# Altium footprint library 封装库11.PcbLib: 16 footprints
Each footprint in its own frame and in the unit in brackets; x right, y up, seen from the top. Pads: shape width x height; smd on the part's side, far side on the other; paste and mask are expansions set on the pad; w line width, h text height; cw(c..) or ccw(c..) is an arc to the next point about the centre after c.
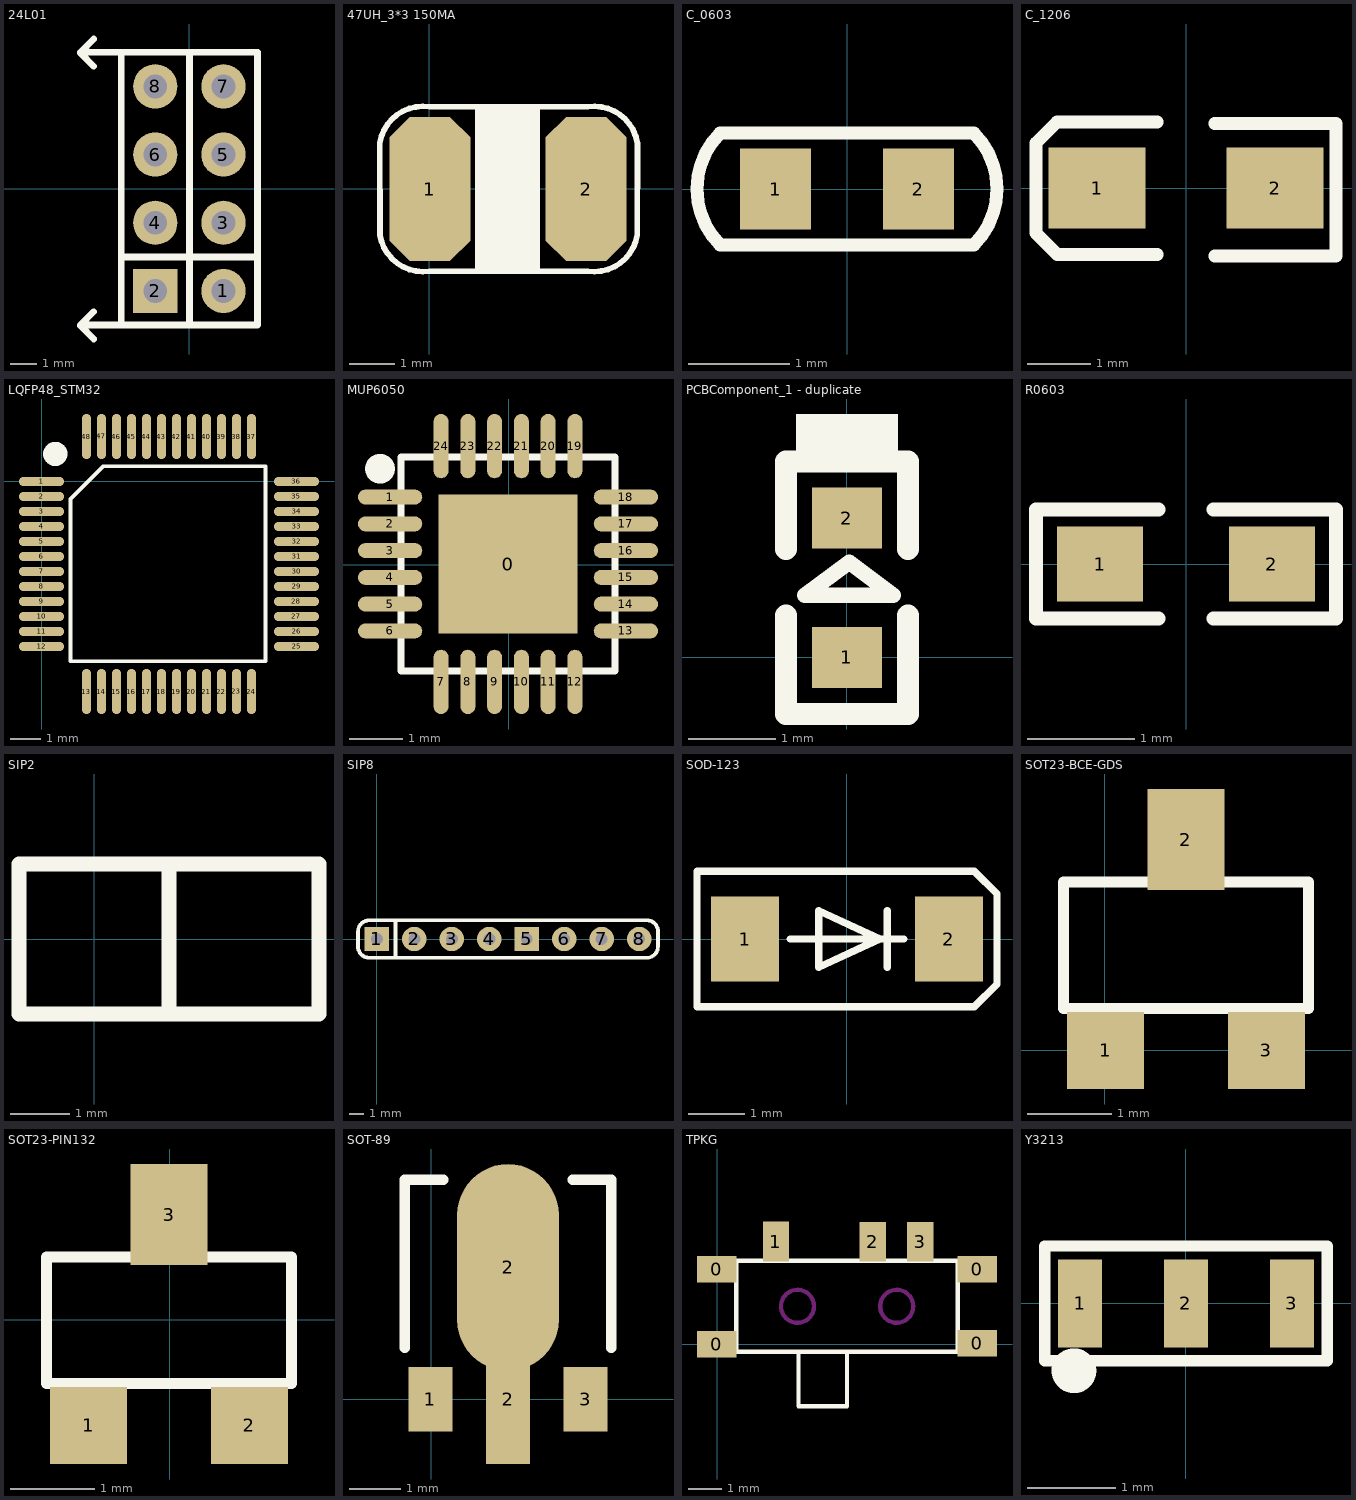
[diagram p0: the footprints below, top view; thin cyan lines are the x and y axes]

## 24L01 [mil]
pads (8):
  round 65 hole 35: 1(50.24,-149.5) 3(50.24,-49.5) 4(-49.76,-49.5) 5(50.24,50.5) 6(-49.76,50.5) 7(50.24,150.5) 8(-49.76,150.5)
  rect 65x65 hole 35: 2(-49.76,-149.5)
Top Overlay:
  lines w10: -159.5,-200.5 -140,-220 ; -140,-180 -159.5,-199.5 -99.76,-199.5 ; -140,180 -159.5,199.5 -159.5,200.5 ; -140,220 -159.5,200.5 ; -99.76,-99.5 0.23,-99.5 100.23,-99.5 ; -159.5,200.5 -99.76,200.5 ; -99.76,-199.5 -99.76,200.5 ; -99.76,-199.5 0.23,-199.5 ; -99.76,200.5 0.24,200.5 ; 0.23,-199.5 0.24,200.5 ; 0.24,-199.5 0.24,200.5 ; 0.24,-199.5 100.23,-199.5 100.24,200.5 0.24,200.5

## 47UH_3*3 150MA [mm]
pads (2):
  oct 1.8x3.2 smd: 1(0.009,-0.003) 2(3.488,-0.003)
Top Overlay:
  rectangle: 1.016,-1.831 2.464,1.826
  lines w0.127: -1.106,1.016 cw(c-0.148,0.868) 0,1.826 3.525,1.826 cw(c3.673,0.868) 4.631,1.016 4.629,-1.021 cw(c3.67,-0.873) 3.522,-1.831 0.003,-1.831 cw(c-0.145,-0.873) -1.103,-1.021 -1.106,1.016

## C_0603 [mm]
height 6
pads (2):
  rect 0.7x0.8 smd: 1(-0.703,0) 2(0.703,0)
Top Overlay:
  lines w0.127: -1.25,-0.55 cw(c-0.7,0) -1.25,0.55 1.25,0.55 cw(c0.7,0) 1.25,-0.55 -1.25,-0.55
3D body: height 0.8, standoff 0, extent -0.8,-0.4 0.8,0.4

## C_1206 [mil]
height 236.22
pads (2):
  rect 60x50 smd: 1(-55,0) 2(55,0)
Top Overlay:
  lines w5: 50.82,39.98 92.72,39.98 ; 60.82,-42.02 92.72,-42.02
  lines w8: -17.82,-41.03 -70.82,-41.03 -79.66,-41.03 -92.82,-27.87 -92.82,-19.03 -92.82,18.75 -92.82,27.93 -79.78,40.97 -70.6,40.97 -17.82,40.97 ; 17.72,-42.02 70.72,-42.02 ; 17.72,39.98 70.72,39.98 ; 44.72,39.98 92.72,39.98 92.72,-42.02 47.72,-42.02
3D body: height 62.99, standoff 0, extent -63,-31.5 62.98,31.5

## LQFP48_STM32 [mm]
height 6
pads (48):
  oval 1.5x0.3 smd: 1(0,0) 2(0,-0.5) 3(0,-1) 4(0,-1.5) 5(0,-2) 6(0,-2.5) 7(0,-3) 8(0,-3.5) 9(0,-4) 10(0,-4.5) 11(0,-5) 12(0,-5.5) 25(8.5,-5.5) 26(8.5,-5) 27(8.5,-4.5) 28(8.5,-4) 29(8.5,-3.5) 30(8.5,-3) 31(8.5,-2.5) 32(8.5,-2) 33(8.5,-1.5) 34(8.5,-1) 35(8.5,-0.5) 36(8.5,0)
  oval 0.3x1.5 smd: 13(1.5,-7) 14(2,-7) 15(2.5,-7) 16(3,-7) 17(3.5,-7) 18(4,-7) 19(4.5,-7) 20(5,-7) 21(5.5,-7) 22(6,-7) 23(6.5,-7) 24(7,-7) 37(7,1.5) 38(6.5,1.5) 39(6,1.5) 40(5.5,1.5) 41(5,1.5) 42(4.5,1.5) 43(4,1.5) 44(3.5,1.5) 45(3,1.5) 46(2.5,1.5) 47(2,1.5) 48(1.5,1.5)
Top Overlay:
  circle w0.5: c0.459,0.919 r0.155
  lines w0.127: 0.965,-5.994 0.965,-0.584 2.055,0.506 7.465,0.506 7.465,-5.994 0.965,-5.994

## MUP6050 [mm]
pads (25):
  rect 2.6x2.6 smd: 0(-0.013,0.013)
  oval 1.2x0.28 smd: 1(-2.213,1.263) 2(-2.213,0.763) 3(-2.213,0.263) 4(-2.213,-0.237) 5(-2.213,-0.737) 6(-2.213,-1.237) 13(2.187,-1.237) 14(2.187,-0.737) 15(2.187,-0.237) 16(2.187,0.263) 17(2.187,0.763) 18(2.187,1.263)
  oval 0.28x1.2 smd: 7(-1.263,-2.187) 8(-0.763,-2.187) 9(-0.263,-2.187) 10(0.237,-2.187) 11(0.737,-2.187) 12(1.237,-2.187) 19(1.237,2.213) 20(0.737,2.213) 21(0.237,2.213) 22(-0.263,2.213) 23(-0.763,2.213) 24(-1.263,2.213)
Top Overlay:
  circle w0.203: c-2.317,1.791 r0.092
  circle w0.203: c-2.402,1.791 r0.176
  lines w0.127: -2.013,-1.987 1.987,-1.987 1.987,2.013 -2.013,2.013 -2.013,-1.987

## PCBComponent_1 - duplicate [mm]
pads (2):
  rect 0.8x0.7 smd: 1(0,0) 2(0,1.6)
Top Overlay:
  rectangle: -0.583,2.25 0.586,2.794
  lines w0.178: -0.483,0.711 0.025,1.092 0.533,0.711 -0.483,0.711
  lines w0.254: -0.7,0.483 -0.7,-0.65 0.7,-0.65 0.7,0.483 ; -0.7,1.245 -0.7,2.25 0.7,2.25 0.7,1.245

## R0603 [mm]
height 6
pads (2):
  rect 0.8x0.7 smd: 1(-0.8,0) 2(0.8,0)
Top Overlay:
  lines w0.127: -0.254,-0.508 -1.397,-0.508 -1.397,0.508 -1.111,0.508 -0.54,0.508 -0.254,0.508 ; 0.254,-0.508 1.397,-0.508 1.397,0.508 0.254,0.508
3D body: height 0.56, standoff 0, extent -0.85,-0.406 0.85,0.394

## SIP2 [mm]
Top Overlay:
  lines w0.254: 1.27,-1.27 1.27,1.27 ; -1.27,-1.27 3.81,-1.27 3.81,1.27 -1.27,1.27 -1.27,-1.27

## SIP8 [mil]
height 216.54
pads (8):
  rect 65x65 hole 32: 1(-0.23,0.07) 5(399.77,0.07)
  round 65 hole 32: 2(99.77,0.07) 3(199.77,0.07) 4(299.77,0.07) 6(499.77,0.07) 7(599.77,0.07) 8(699.77,0.07)
Top Overlay:
  lines w10: 49.77,-49.93 49.77,50.07 ; -50.23,-19.79 ccw(c-20.37,-20.07) -20.65,-49.93 719.63,-49.93 ccw(c719.92,-20.07) 749.77,-20.36 749.77,19.92 ccw(c719.92,20.21) 720.2,50.07 -20.08,50.07 ccw(c-20.37,20.21) -50.23,20.49 -50.23,-19.79
3D body: height 336.22, standoff -118.11, extent -50.22,-49.93 749.78,50.07

## SOD-123 [mm]
pads (2):
  rect 1.2x1.5 smd: 1(-1.8,0) 2(1.8,0)
Top Overlay:
  lines w0.13: -1,0 1,0 ; 0.708,-0.5 0.708,0.5 ; -2.65,-1.2 -2.65,1.2 2.25,1.2 2.65,0.8 2.65,-0.8 2.25,-1.2 -2.65,-1.2 ; -0.5,-0.5 -0.5,0.5 0.581,0 -0.5,-0.5

## SOT23-BCE-GDS [mil]
pads (3):
  rect 36x36 smd: 1(0.5,-0.09) 3(75.5,-0.09)
  rect 36x47.24 smd: 2(38,98.34)
Top Overlay:
  lines w5.12: -19.09,19.6 95.08,19.6 95.08,78.65 -19.09,78.65 -19.09,19.6

## SOT23-PIN132 [mil]
height 236.22
pads (3):
  rect 36x36 smd: 1(-37.86,-49.43) 2(37.14,-49.43)
  rect 36x47.24 smd: 3(-0.36,48.99)
Top Overlay:
  lines w5.12: -57.45,-29.75 -57.45,29.31 56.73,29.31 56.73,-29.75 -57.45,-29.75
3D body: height 47.24, standoff 0, extent -57.08,-55.11 57.1,55.13

## SOT-89 [mil]
pads (4):
  rect 34x50 smd: 1(-0.5,-0.1) 3(119.5,-0.1)
  rect 34x100 smd: 2(59.5,-0.1)
  oval 78.74x160 smd: 2(59.5,102)
Top Overlay:
  lines w8: -20.5,39.9 -20.5,169.9 9.5,169.9 ; 109.5,169.9 139.5,169.9 139.5,39.9

## TPKG [mm]
pads (7):
  rect 1.2x0.8 smd: 0(-0.011,0.006) 0(-0.011,2.267) 0(7.863,0.032) 0(7.863,2.267)
  rect 0.8x1.2 smd: 1(1.778,3.112) 2(4.699,3.105) 3(6.136,3.105)
Top Overlay:
  lines w0.127: 2.458,-0.254 2.458,-1.872 3.926,-1.872 3.926,-0.222 ; 0.579,-0.222 0.579,2.528 7.279,2.528 7.279,-0.222 0.579,-0.222
Keep-Out Layer:
  circle w0.127: c2.429,1.153 r0.5
  circle w0.127: c5.429,1.153 r0.5

## Y3213 [mm]
height 6
pads (3):
  rect 0.5x1 smd: 1(-1.2,0) 2(0,0) 3(1.2,0)
Top Overlay:
  circle w0.254: c-1.27,-0.762 r0.127
  lines w0.127: -1.6,-0.65 -1.6,0.65 1.6,0.65 1.6,-0.65 -1.6,-0.65
3D body: height 0.8, standoff 0, extent -1.524,-0.635 1.524,0.635